# Altium schematic symbol library 2227023-1.SchLib: 1 symbol
Pins are listed as number, name and electrical type; pins without a type are passive.

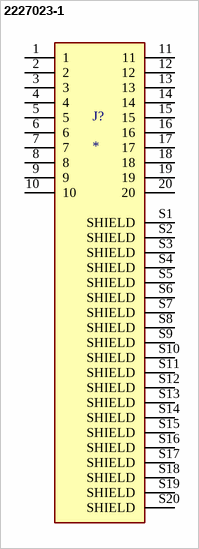
[diagram p0: symbol 2227023-1]

## 2227023-1
designator J?
Connector Accessories 1 Port SFP Cage Press Fit Right Angle Through Hole Nickel Tray; MF: {'manufacturer': u'TE Connectivity'}; MP: 2227023-1; Price: None; Value: *; Availability: Unavailable; Package: None
footprint TE_2227023-1
pins: 1, 2, 3, 4, 5, 6, 7, 8, 9, 10, 11, 12, 13, 14, 15, 16, 17, 18, 19, 20, S1 SHIELD, S2 SHIELD, S3 SHIELD, S4 SHIELD, S5 SHIELD, S6 SHIELD, S7 SHIELD, S8 SHIELD, S9 SHIELD, S10 SHIELD, S11 SHIELD, S12 SHIELD, S13 SHIELD, S14 SHIELD, S15 SHIELD, S16 SHIELD, S17 SHIELD, S18 SHIELD, S19 SHIELD, S20 SHIELD